# EAGLE library part TPS54302 (library Bits_library_eagle 9x)
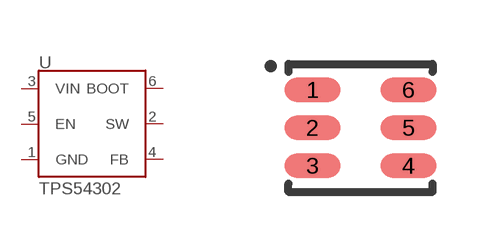
[diagram p2: symbol with the pads of SOT-23-6; footprint SOT-23-6]

Designator prefix -

## TPS54302  [SOT-23-6]
1  GND  pwr
2  SW  pwr
3  VIN  pwr
4  FB  pwr
5  EN  in
6  BOOT  pwr

## Footprint SOT-23-6 (pad centres in mm)
Small Outline Transistor
smd 1.4 x 0.6: 1 -1.2,0.95; 2 -1.2,0; 3 -1.2,-0.95; 4 1.2,-0.95; 5 1.2,0; 6 1.2,0.95